# Altium footprint library 4PinOpto.PcbLib: 1 footprints
Each footprint in its own frame and in the unit in brackets; x right, y up, seen from the top. Pads: shape width x height; smd on the part's side, far side on the other; paste and mask are expansions set on the pad; w line width, h text height; cw(c..) or ccw(c..) is an arc to the next point about the centre after c.
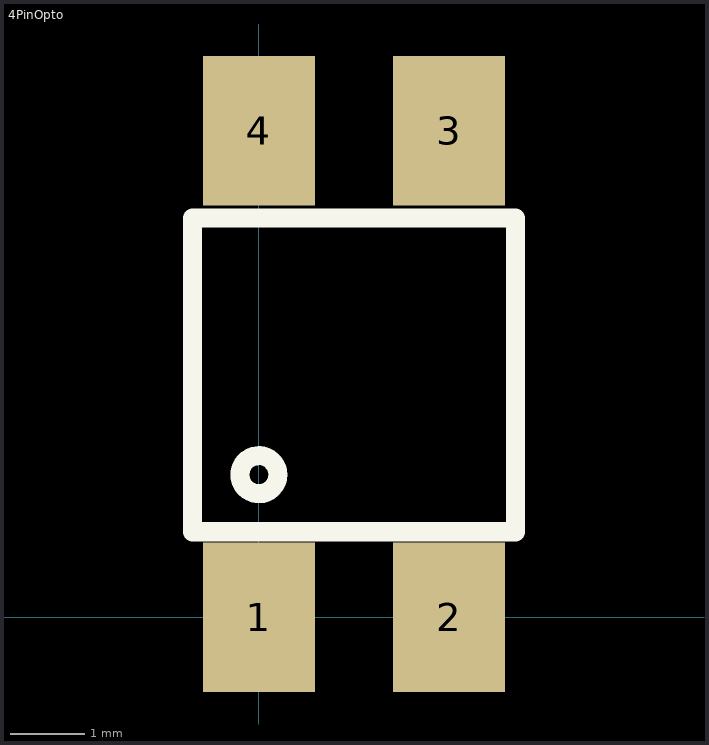
[diagram p0: the footprint, top view; thin cyan lines are the x and y axes]

## 4PinOpto [mm]
pads (4):
  rect 1.5x2 smd: 1(0,0) 2(2.54,0) 3(2.54,6.5) 4(0,6.5)
Top Overlay:
  circle w0.254: c0,1.905 r0.254
  lines w0.254: -0.889,1.143 3.429,1.143 3.429,5.334 -0.889,5.334 -0.889,1.143